# Altium footprint library XHP70DH000000D0HN20E3_12.PcbLib: 1 footprints
Each footprint in its own frame and in the unit in brackets; x right, y up, seen from the top. Pads: shape width x height; smd on the part's side, far side on the other; paste and mask are expansions set on the pad; w line width, h text height; cw(c..) or ccw(c..) is an arc to the next point about the centre after c.
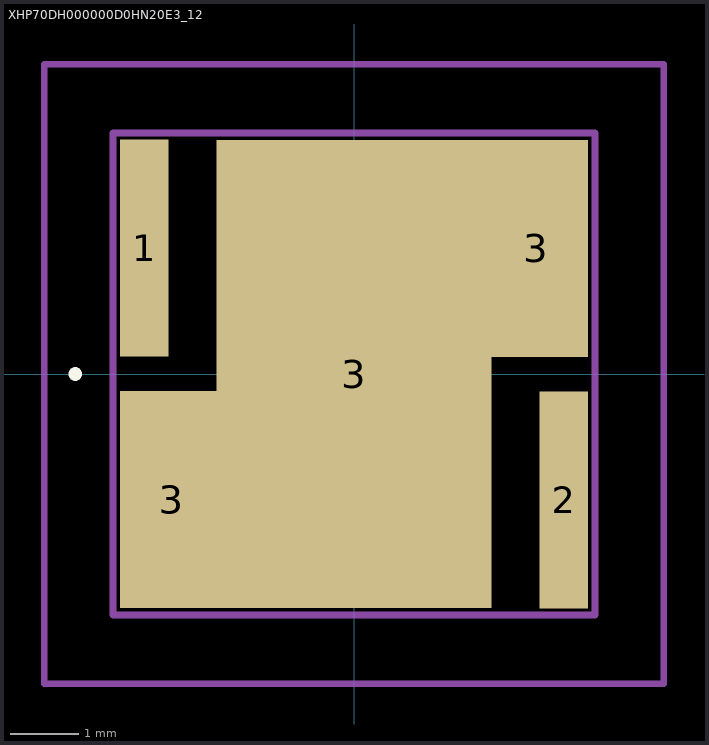
[diagram p0: the footprint, top view; thin cyan lines are the x and y axes]

## XHP70DH000000D0HN20E3_12 [mm]
pads (5):
  rect 0.7x3.15 smd: 1(-3.048,1.83) 2(3.048,-1.83)
  rect 1.5x3.15 smd: 3(-2.648,-1.825) 3(2.648,1.825)
  rect 4x6.8 smd: 3(0,0)
Top Overlay:
  lines w0.1: -4.1,0 cw(c-4.05,0) -4,0 cw(c-4.05,0) -4.1,0
Mechanical 15:
  lines w0.1: -3.5,-3.5 -3.5,3.5 3.5,3.5 3.5,-3.5 -3.5,-3.5
Mechanical 20:
  lines w0.1: -4.5,-4.5 -4.5,4.5 4.5,4.5 4.5,-4.5 -4.5,-4.5